# EAGLE library part STM32F303K8 (library CASE-MCU)
STM32F303K8, LQFP-32 Description: STM32F303K8 from STMicroelectronics F3 series (Arm Cortex M4), LQFP-32 package Links: Datasheet <https://www.st.com/resource/en/datasheet/stm32f303k8.pdf> Website <https://www.st.com/en/microcontrollers/stm32f303k8.html> NUCLEO-F303K8 <https://www.st.com/en/evaluation-tools/nucleo-f303k8.html>
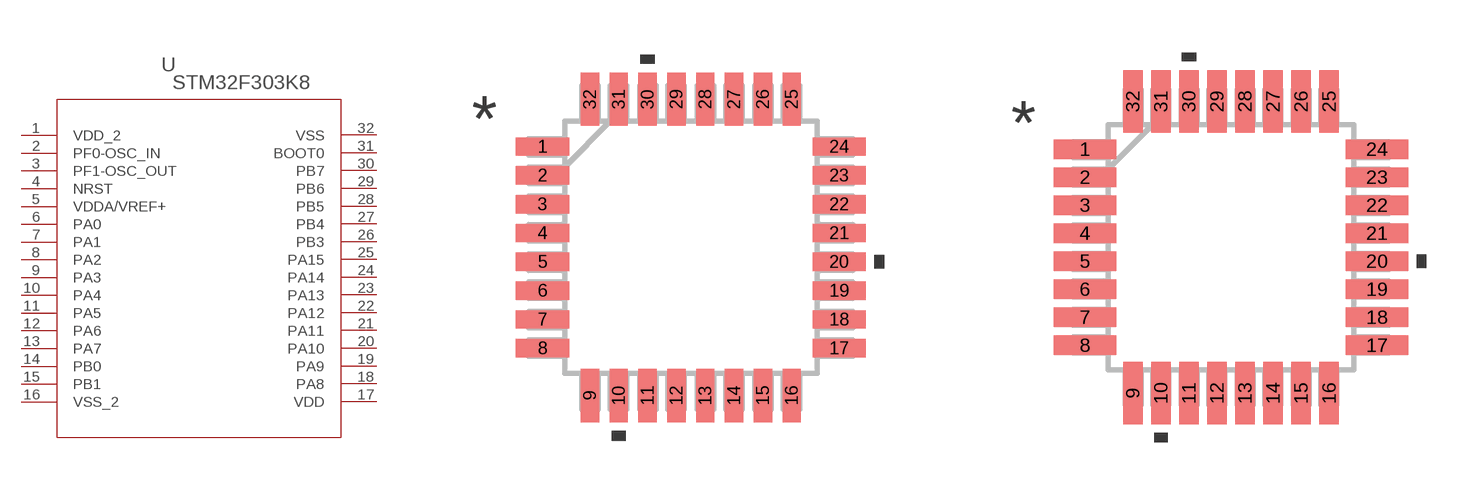
[diagram p8: symbol with the pads of LQFP-32; footprints LQFP-32, LQFP-32-M]

Designator prefix U

## STM32F303K8 (MANUFACTURER_PART_NUMBER: stm32f303_334kxt; VENDOR: STMicroelectronics)  [LQFP-32]
1  VDD_2  pwr
2  PF0-OSC_IN
3  PF1-OSC_OUT
4  NRST
5  VDDA/VREF+  pwr
6  PA0
7  PA1
8  PA2
9  PA3
10  PA4
11  PA5
12  PA6
13  PA7
14  PB0
15  PB1
16  VSS_2  pwr
17  VDD  pwr
18  PA8
19  PA9
20  PA10
21  PA11
22  PA12
23  PA13
24  PA14
25  PA15
26  PB3
27  PB4
28  PB5
29  PB6
30  PB7
31  BOOT0  in
32  VSS  pwr

## STM32F303K8LQFP-32-M (MANUFACTURER_PART_NUMBER: stm32f303_334kxt; VENDOR: STMicroelectronics)  [LQFP-32-M]
Pads as for LQFP-32

## STM32F303K8LQFP-32-L (MANUFACTURER_PART_NUMBER: stm32f303_334kxt; VENDOR: STMicroelectronics)  [LQFP-32-L]
Pads as for LQFP-32

## Footprint LQFP-32 (pad centres in mm)
smd 1.473 x 0.508: 1 -4.115,2.8; 2 -4.115,2; 3 -4.115,1.2; 4 -4.115,0.4; 5 -4.115,-0.4; 6 -4.115,-1.2; 7 -4.115,-2; 8 -4.115,-2.8; 17 4.115,-2.8; 18 4.115,-2; 19 4.115,-1.2; 20 4.115,-0.4; 21 4.115,0.4; 22 4.115,1.2; 23 4.115,2; 24 4.115,2.8
smd 0.508 x 1.473: 9 -2.8,-4.115; 10 -2,-4.115; 11 -1.2,-4.115; 12 -0.4,-4.115; 13 0.4,-4.115; 14 1.2,-4.115; 15 2,-4.115; 16 2.8,-4.115; 25 2.8,4.115; 26 2,4.115; 27 1.2,4.115; 28 0.4,4.115; 29 -0.4,4.115; 30 -1.2,4.115; 31 -2,4.115; 32 -2.8,4.115

## Footprint LQFP-32-M (pad centres in mm)
smd 1.778 x 0.559: 1 -4.166,2.8; 2 -4.166,2; 3 -4.166,1.2; 4 -4.166,0.4; 5 -4.166,-0.4; 6 -4.166,-1.2; 7 -4.166,-2; 8 -4.166,-2.8; 17 4.166,-2.8; 18 4.166,-2; 19 4.166,-1.2; 20 4.166,-0.4; 21 4.166,0.4; 22 4.166,1.2; 23 4.166,2; 24 4.166,2.8
smd 0.559 x 1.778: 9 -2.8,-4.166; 10 -2,-4.166; 11 -1.2,-4.166; 12 -0.4,-4.166; 13 0.4,-4.166; 14 1.2,-4.166; 15 2,-4.166; 16 2.8,-4.166; 25 2.8,4.166; 26 2,4.166; 27 1.2,4.166; 28 0.4,4.166; 29 -0.4,4.166; 30 -1.2,4.166; 31 -2,4.166; 32 -2.8,4.166

## Footprint LQFP-32-L (pad centres in mm)
smd 1.168 x 0.457: 1 -4.064,2.8; 2 -4.064,2; 3 -4.064,1.2; 4 -4.064,0.4; 5 -4.064,-0.4; 6 -4.064,-1.2; 7 -4.064,-2; 8 -4.064,-2.8; 17 4.064,-2.8; 18 4.064,-2; 19 4.064,-1.2; 20 4.064,-0.4; 21 4.064,0.4; 22 4.064,1.2; 23 4.064,2; 24 4.064,2.8
smd 0.457 x 1.168: 9 -2.8,-4.064; 10 -2,-4.064; 11 -1.2,-4.064; 12 -0.4,-4.064; 13 0.4,-4.064; 14 1.2,-4.064; 15 2,-4.064; 16 2.8,-4.064; 25 2.8,4.064; 26 2,4.064; 27 1.2,4.064; 28 0.4,4.064; 29 -0.4,4.064; 30 -1.2,4.064; 31 -2,4.064; 32 -2.8,4.064